# Altium schematic symbol library Terminal_Blocks_Rising Cage Clamp_5mm.SchLib: 8 symbols
Pins are listed as number, name and electrical type; pins without a type are passive.

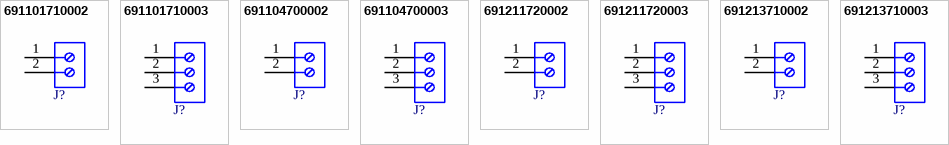
[diagram p0: symbols 691101710002 to 691213710003]

## 691101710002
designator J?, comment 16A, 250V  (value not drawn)
WR-TBL Series 101 Horizontal Entry Modular, THT, pitch 5mm, 2p; Manufacturer Part Number: 691101710002; Manufacturer: Wurth Elektronik; Modularity: Yes; ComponentLink1Description: Datasheet; ComponentLink1URL: https://www.we-online.com/redexpert/spec/691101710002?ad; Category: Terminal Blocks; Match Code: WR-TBL; Mount: Through Hole; Operating Temperature Max: 105°C; Operating Temperature Min: -40°C; Packaging: Box; Application: Pressure Clamp; Number of Pins: 2; Number of Rows: 1; Orientation: Horizontal; Pitch: 5mm; Rated Current: 16A; Working Voltage: 250V; Supplier 1 URL: N/A; Supplier 2 URL: N/A; Supplier 3 URL: https://www.thegioiic.com/kf301-2-v-domino-2-chan-thang-5-08mm-300v-10a-han-pcb; Value: 16A, 250V; LCSC Part #: N/A; Supplier 1: Mouser; Supplier 1 Part Number: N/A; Supplier 2: Digi-Key; Supplier 2 Part Number: N/A; Supplier 3: thegioiic; Supplier 3 Part Number: N/A
footprint 691101710002
pins: 1, 2

## 691101710003
designator J?, comment 16A, 250V  (value not drawn)
WR-TBL Series 101 Horizontal Entry Modular, THT, pitch 5mm, 3p; Manufacturer Part Number: 691101710003; Manufacturer: Wurth Elektronik; Modularity: Yes; ComponentLink1Description: Datasheet; ComponentLink1URL: https://www.we-online.com/redexpert/spec/691101710003?ad; Category: Terminal Blocks; Match Code: WR-TBL; Mount: Through Hole; Operating Temperature Max: 105°C; Operating Temperature Min: -40°C; Packaging: Box; Application: Pressure Clamp; Number of Pins: 3; Number of Rows: 1; Orientation: Horizontal; Pitch: 5mm; Rated Current: 16A; Working Voltage: 250V; Supplier 1 URL: N/A; Supplier 2 URL: N/A; Supplier 3 URL: https://www.thegioiic.com/kf301-2-v-domino-2-chan-thang-5-08mm-300v-10a-han-pcb; Value: 16A, 250V; LCSC Part #: N/A; Supplier 1: Mouser; Supplier 1 Part Number: N/A; Supplier 2: Digi-Key; Supplier 2 Part Number: N/A; Supplier 3: thegioiic; Supplier 3 Part Number: N/A
footprint 691101710003
pins: 1, 2, 3

## 691104700002
designator J?, comment 16A, 250V  (value not drawn)
WR-TBL Series 1047 Vertical Entry Modular, THT, pitch 5mm, 2p; Manufacturer Part Number: 691104700002; Manufacturer: Wurth Elektronik; Modularity: Yes; ComponentLink1Description: Datasheet; ComponentLink1URL: https://www.we-online.com/redexpert/spec/691104700002?ad; Category: Terminal Blocks; Match Code: WR-TBL; Mount: Through Hole; Operating Temperature Max: 105°C; Operating Temperature Min: -40°C; Packaging: Box; Application: Pressure Clamp; Number of Pins: 2; Number of Rows: 1; Orientation: Vertical; Pitch: 5mm; Rated Current: 16A; Working Voltage: 250V; Supplier 1 URL: N/A; Supplier 2 URL: N/A; Supplier 3 URL: https://www.thegioiic.com/kf301-2-r-domino-2-chan-cong-5-08mm-300v-10a-han-pcb; Value: 16A, 250V; LCSC Part #: N/A; Supplier 1: Mouser; Supplier 1 Part Number: N/A; Supplier 2: Digi-Key; Supplier 2 Part Number: N/A; Supplier 3: thegioiic; Supplier 3 Part Number: N/A
footprint 691104700002
pins: 1, 2

## 691104700003
designator J?, comment 16A, 250V  (value not drawn)
WR-TBL Series 1047 Vertical Entry Modular, THT, pitch 5mm, 3p; Manufacturer Part Number: 691104700003; Manufacturer: Wurth Elektronik; Modularity: Yes; ComponentLink1Description: Datasheet; ComponentLink1URL: https://www.we-online.com/redexpert/spec/691104700003?ad; Category: Terminal Blocks; Match Code: WR-TBL; Mount: Through Hole; Operating Temperature Max: 105°C; Operating Temperature Min: -40°C; Packaging: Box; Application: Pressure Clamp; Number of Pins: 3; Number of Rows: 1; Orientation: Vertical; Pitch: 5mm; Rated Current: 16A; Working Voltage: 250V; Supplier 1 URL: N/A; Supplier 2 URL: N/A; Supplier 3 URL: https://www.thegioiic.com/kf301-3-r-domino-3-chan-cong-5-08mm-300v-10a-han-pcb; Value: 16A, 250V; LCSC Part #: N/A; Supplier 1: Mouser; Supplier 1 Part Number: N/A; Supplier 2: Digi-Key; Supplier 2 Part Number: N/A; Supplier 3: thegioiic; Supplier 3 Part Number: N/A
footprint 691104700003 (,00mm - modular - blue - Vertical wire entry - Pressure clamp - 03p)
pins: 1, 2, 3

## 691211720002
designator J?, comment 16A, 300V  (value not drawn)
WR-TBL Series 211 45° Entry Modular, THT, pitch 5mm, 2p; Manufacturer Part Number: 691211720002; Manufacturer: Wurth Elektronik; Modularity: Yes; Rated Current: 10A; ComponentLink1Description: Datasheet; ComponentLink1URL: https://www.we-online.com/redexpert/spec/691211720002?ad; Category: Terminal Blocks; Match Code: WR-TBL; Mount: Through Hole; Operating Temperature Max: 105°C; Operating Temperature Min: -40°C; Packaging: Box; Application: Rising Cage Clamp; Number of Pins: 2; Number of Rows: 1; Orientation: 45°; Pitch: 5mm; Working Voltage: 300V; Supplier 1 URL: N/A; Supplier 2 URL: N/A; Supplier 3 URL: https://www.thegioiic.com/kf103-2-v-domino-2-chan-thang-5-08mm-300v-10a-han-pcb; Value: 16A, 300V; LCSC Part #: N/A; Supplier 1: Mouser; Supplier 1 Part Number: N/A; Supplier 2: Digi-Key; Supplier 2 Part Number: N/A; Supplier 3: thegioiic; Supplier 3 Part Number: N/A
footprint 691211720002
pins: 1, 2

## 691211720003
designator J?, comment 16A, 300V  (value not drawn)
WR-TBL Series 211 45° Entry Modular, THT, pitch 5mm, 3p; Manufacturer Part Number: 691211720003; Manufacturer: Wurth Elektronik; Modularity: Yes; Rated Current: 10A; ComponentLink1Description: Datasheet; ComponentLink1URL: https://www.we-online.com/redexpert/spec/691211720003?ad; Category: Terminal Blocks; Match Code: WR-TBL; Mount: Through Hole; Operating Temperature Max: 105°C; Operating Temperature Min: -40°C; Packaging: Box; Application: Rising Cage Clamp; Number of Pins: 3; Number of Rows: 1; Orientation: 45°; Pitch: 5mm; Working Voltage: 300V; Supplier 1 URL: N/A; Supplier 2 URL: N/A; Supplier 3 URL: https://www.thegioiic.com/kf103-3-v-domino-3-chan-thang-5-08mm-300v-10a-han-pcb; Value: 16A, 300V; LCSC Part #: N/A; Supplier 1: Mouser; Supplier 1 Part Number: N/A; Supplier 2: Digi-Key; Supplier 2 Part Number: N/A; Supplier 3: thegioiic; Supplier 3 Part Number: N/A
footprint 691211720003
pins: 1, 2, 3

## 691213710002
designator J?, comment 16A, 300V  (value not drawn)
WR-TBL Series 213 Horizontal Entry Modular, THT, pitch 5mm, 2p; Manufacturer Part Number: 691213710002; Manufacturer: Wurth Elektronik; Modularity: Yes; Rated Current: 10A; ComponentLink1Description: Datasheet; ComponentLink1URL: https://www.we-online.com/redexpert/spec/691213710002?ad; Category: Terminal Blocks; Match Code: WR-TBL; Mount: Through Hole; Operating Temperature Max: 105°C; Operating Temperature Min: -40°C; Packaging: Box; Application: Rising Cage Clamp; Number of Pins: 2; Number of Rows: 1; Orientation: Horizontal; Pitch: 5mm; Working Voltage: 300V; Supplier 1 URL: N/A; Supplier 2 URL: N/A; Supplier 3 URL: https://www.thegioiic.com/kf128-2-v-domino-2-chan-thang-5mm-300v-10a-han-pcb-loai-tot; Value: 16A, 300V; LCSC Part #: N/A; Supplier 1: Mouser; Supplier 1 Part Number: N/A; Supplier 2: Digi-Key; Supplier 2 Part Number: N/A; Supplier 3: thegioiic; Supplier 3 Part Number: N/A
footprint 691213710002
pins: 1, 2

## 691213710003
designator J?, comment 16A, 300V  (value not drawn)
WR-TBL Series 213 Horizontal Entry Modular, THT, pitch 5mm, 3p; Manufacturer Part Number: 691213710003; Manufacturer: Wurth Elektronik; Modularity: Yes; Rated Current: 10A; ComponentLink1Description: Datasheet; ComponentLink1URL: https://www.we-online.com/redexpert/spec/691213710003?ad; Category: Terminal Blocks; Match Code: WR-TBL; Mount: Through Hole; Operating Temperature Max: 105°C; Operating Temperature Min: -40°C; Packaging: Box; Application: Rising Cage Clamp; Number of Pins: 3; Number of Rows: 1; Orientation: Horizontal; Pitch: 5mm; Working Voltage: 300V; Supplier 1 URL: N/A; Supplier 2 URL: N/A; Supplier 3 URL: https://www.thegioiic.com/kf128-3-v-domino-3-chan-thang-5mm-300v-10a-han-pcb-loai-tot; Value: 16A, 300V; LCSC Part #: N/A; Supplier 1: Mouser; Supplier 1 Part Number: N/A; Supplier 2: Digi-Key; Supplier 2 Part Number: N/A; Supplier 3: thegioiic; Supplier 3 Part Number: N/A
footprint 691213710003
pins: 1, 2, 3